# Altium footprint library Capacitor_THT.PcbLib: 378 footprints (part 5 of 24)
Each footprint in its own frame and in the unit in brackets; x right, y up, seen from the top. Pads: shape width x height; smd on the part's side, far side on the other; paste and mask are expansions set on the pad; w line width, h text height; cw(c..) or ccw(c..) is an arc to the next point about the centre after c.
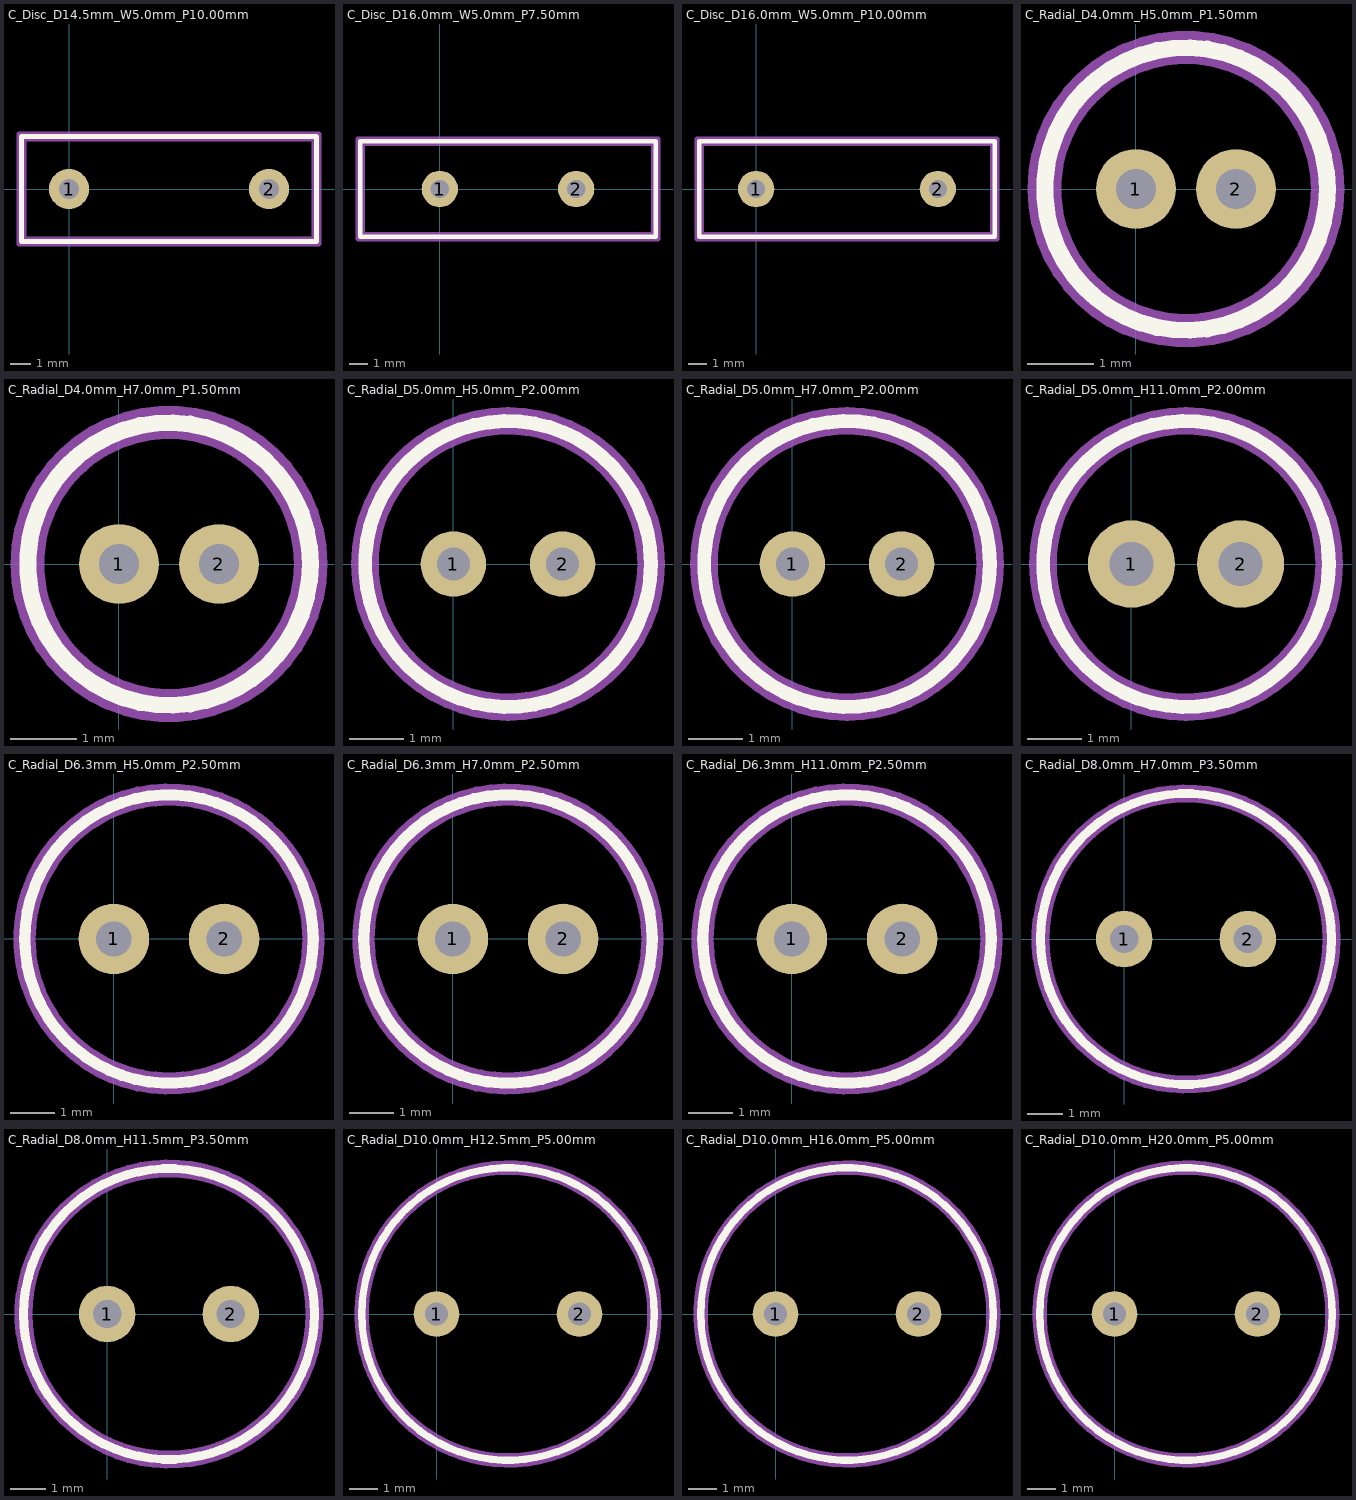
[diagram p4: the footprints below, top view; thin cyan lines are the x and y axes]

## C_Disc_D14.5mm_W5.0mm_P10.00mm [mm]
pads (2):
  round 2 hole 1: 1(0,0) 2(10,0)
F.SilkS:
  lines w0.254: -2.37,-2.62 12.37,-2.62 12.37,2.62 -2.37,2.62 -2.37,-2.62
Top Assembly:
  lines w0.254: -2.25,-2.5 12.25,-2.5 12.25,2.5 -2.25,2.5 -2.25,-2.5
  text "'.Designator'" at 0.953,-0.84 h1
Top Courtyard:
  lines w0.254: -2.5,-2.75 12.5,-2.75 12.5,2.75 -2.5,2.75 -2.5,-2.75
Top Designator:
  text ".Designator" at -2.618,-0.508 h1.52

## C_Disc_D16.0mm_W5.0mm_P7.50mm [mm]
pads (2):
  round 2 hole 1: 1(0,0) 2(7.5,0)
F.SilkS:
  lines w0.254: -4.37,-2.62 11.87,-2.62 11.87,2.62 -4.37,2.62 -4.37,-2.62
Top Assembly:
  lines w0.254: -4.25,-2.5 11.75,-2.5 11.75,2.5 -4.25,2.5 -4.25,-2.5
  text "'.Designator'" at -0.297,-0.84 h1
Top Courtyard:
  lines w0.254: -4.5,-2.75 12,-2.75 12,2.75 -4.5,2.75 -4.5,-2.75
Top Designator:
  text ".Designator" at -3.868,-0.508 h1.52

## C_Disc_D16.0mm_W5.0mm_P10.00mm [mm]
pads (2):
  round 2 hole 1: 1(0,0) 2(10,0)
F.SilkS:
  lines w0.254: -3.12,-2.62 13.12,-2.62 13.12,2.62 -3.12,2.62 -3.12,-2.62
Top Assembly:
  lines w0.254: -3,-2.5 13,-2.5 13,2.5 -3,2.5 -3,-2.5
  text "'.Designator'" at 0.953,-0.84 h1
Top Courtyard:
  lines w0.254: -3.25,-2.75 13.25,-2.75 13.25,2.75 -3.25,2.75 -3.25,-2.75
Top Designator:
  text ".Designator" at -2.618,-0.508 h1.52

## C_Radial_D4.0mm_H5.0mm_P1.50mm [mm]
pads (2):
  round 1.2 hole 0.6: 1(0,0) 2(1.5,0)
F.SilkS:
  circle w0.254: c0.75,0 r2.12
Top Assembly:
  circle w0.254: c0.75,0 r2
  text "'.Designator'" at -2.487,-0.672 h0.8
Top Courtyard:
  circle w0.254: c0.75,0 r2.25
Top Designator:
  text ".Designator" at -6.988,-0.508 h1.52

## C_Radial_D4.0mm_H7.0mm_P1.50mm [mm]
pads (2):
  round 1.2 hole 0.6: 1(0,0) 2(1.5,0)
F.SilkS:
  circle w0.254: c0.75,0 r2.12
Top Assembly:
  circle w0.254: c0.75,0 r2
  text "'.Designator'" at -2.487,-0.672 h0.8
Top Courtyard:
  circle w0.254: c0.75,0 r2.25
Top Designator:
  text ".Designator" at -6.988,-0.508 h1.52

## C_Radial_D5.0mm_H5.0mm_P2.00mm [mm]
pads (2):
  round 1.2 hole 0.6: 1(0,0) 2(2,0)
F.SilkS:
  circle w0.254: c1,0 r2.62
Top Assembly:
  circle w0.254: c1,0 r2.5
  text "'.Designator'" at -3.047,-0.84 h1
Top Courtyard:
  circle w0.254: c1,0 r2.75
Top Designator:
  text ".Designator" at -6.768,-0.508 h1.52

## C_Radial_D5.0mm_H7.0mm_P2.00mm [mm]
pads (2):
  round 1.2 hole 0.6: 1(0,0) 2(2,0)
F.SilkS:
  circle w0.254: c1,0 r2.62
Top Assembly:
  circle w0.254: c1,0 r2.5
  text "'.Designator'" at -3.047,-0.84 h1
Top Courtyard:
  circle w0.254: c1,0 r2.75
Top Designator:
  text ".Designator" at -6.768,-0.508 h1.52

## C_Radial_D5.0mm_H11.0mm_P2.00mm [mm]
pads (2):
  round 1.6 hole 0.8: 1(0,0) 2(2,0)
F.SilkS:
  circle w0.254: c1,0 r2.62
Top Assembly:
  circle w0.254: c1,0 r2.5
  text "'.Designator'" at -3.047,-0.84 h1
Top Courtyard:
  circle w0.254: c1,0 r2.75
Top Designator:
  text ".Designator" at -6.768,-0.508 h1.52

## C_Radial_D6.3mm_H5.0mm_P2.50mm [mm]
pads (2):
  round 1.6 hole 0.8: 1(0,0) 2(2.5,0)
F.SilkS:
  circle w0.254: c1.25,0 r3.27
Top Assembly:
  circle w0.254: c1.25,0 r3.15
  text "'.Designator'" at -2.797,-0.84 h1
Top Courtyard:
  circle w0.254: c1.25,0 r3.4
Top Designator:
  text ".Designator" at -6.518,-0.508 h1.52

## C_Radial_D6.3mm_H7.0mm_P2.50mm [mm]
pads (2):
  round 1.6 hole 0.8: 1(0,0) 2(2.5,0)
F.SilkS:
  circle w0.254: c1.25,0 r3.27
Top Assembly:
  circle w0.254: c1.25,0 r3.15
  text "'.Designator'" at -2.797,-0.84 h1
Top Courtyard:
  circle w0.254: c1.25,0 r3.4
Top Designator:
  text ".Designator" at -6.518,-0.508 h1.52

## C_Radial_D6.3mm_H11.0mm_P2.50mm [mm]
pads (2):
  round 1.6 hole 0.8: 1(0,0) 2(2.5,0)
F.SilkS:
  circle w0.254: c1.25,0 r3.27
Top Assembly:
  circle w0.254: c1.25,0 r3.15
  text "'.Designator'" at -2.797,-0.84 h1
Top Courtyard:
  circle w0.254: c1.25,0 r3.4
Top Designator:
  text ".Designator" at -6.518,-0.508 h1.52

## C_Radial_D8.0mm_H7.0mm_P3.50mm [mm]
pads (2):
  round 1.6 hole 0.8: 1(0,0) 2(3.5,0)
F.SilkS:
  circle w0.254: c1.75,0 r4.12
Top Assembly:
  circle w0.254: c1.75,0 r4
  text "'.Designator'" at -2.297,-0.84 h1
Top Courtyard:
  circle w0.254: c1.75,0 r4.25
Top Designator:
  text ".Designator" at -5.868,-0.508 h1.52

## C_Radial_D8.0mm_H11.5mm_P3.50mm [mm]
pads (2):
  round 1.6 hole 0.8: 1(0,0) 2(3.5,0)
F.SilkS:
  circle w0.254: c1.75,0 r4.12
Top Assembly:
  circle w0.254: c1.75,0 r4
  text "'.Designator'" at -2.297,-0.84 h1
Top Courtyard:
  circle w0.254: c1.75,0 r4.25
Top Designator:
  text ".Designator" at -5.868,-0.508 h1.52

## C_Radial_D10.0mm_H12.5mm_P5.00mm [mm]
pads (2):
  round 1.6 hole 0.8: 1(0,0) 2(5,0)
F.SilkS:
  circle w0.254: c2.5,0 r5.12
Top Assembly:
  circle w0.254: c2.5,0 r5
  text "'.Designator'" at -1.547,-0.84 h1
Top Courtyard:
  circle w0.254: c2.5,0 r5.25
Top Designator:
  text ".Designator" at -5.118,-0.508 h1.52

## C_Radial_D10.0mm_H16.0mm_P5.00mm [mm]
pads (2):
  round 1.6 hole 0.8: 1(0,0) 2(5,0)
F.SilkS:
  circle w0.254: c2.5,0 r5.12
Top Assembly:
  circle w0.254: c2.5,0 r5
  text "'.Designator'" at -1.547,-0.84 h1
Top Courtyard:
  circle w0.254: c2.5,0 r5.25
Top Designator:
  text ".Designator" at -5.118,-0.508 h1.52

## C_Radial_D10.0mm_H20.0mm_P5.00mm [mm]
pads (2):
  round 1.6 hole 0.8: 1(0,0) 2(5,0)
F.SilkS:
  circle w0.254: c2.5,0 r5.12
Top Assembly:
  circle w0.254: c2.5,0 r5
  text "'.Designator'" at -1.547,-0.84 h1
Top Courtyard:
  circle w0.254: c2.5,0 r5.25
Top Designator:
  text ".Designator" at -5.118,-0.508 h1.52